# Altium schematic symbol library DR125-330-R.SchLib: 1 symbol
Pins are listed as number, name and electrical type; pins without a type are passive.

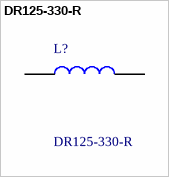
[diagram p0: symbol DR125-330-R]

## DR125-330-R
designator L?
Eaton, , 0125 Shielded Wire-wound SMD Inductor with a Ferrite Core, 33 uH +/-20% Wire-Wound 3.84A Idc; Geometry.Height: 6mm; TME Electronic Components Part Number: *; TME Electronic Components Price/Stock: *; Manufacturer_Name: Eaton; Manufacturer_Part_Number: DR125-330-R; Datasheet Link: https://www.mouser.de/datasheet/2/87/eaton_dr_high_power_density_high_efficiency_shield-1608690.pdf
footprint INDPM125125X600N
pins: 1, 2